# Altium footprint library Optoelectronic.PcbLib: 3 footprints
Each footprint in its own frame and in the unit in brackets; x right, y up, seen from the top. Pads: shape width x height; smd on the part's side, far side on the other; paste and mask are expansions set on the pad; w line width, h text height; cw(c..) or ccw(c..) is an arc to the next point about the centre after c.
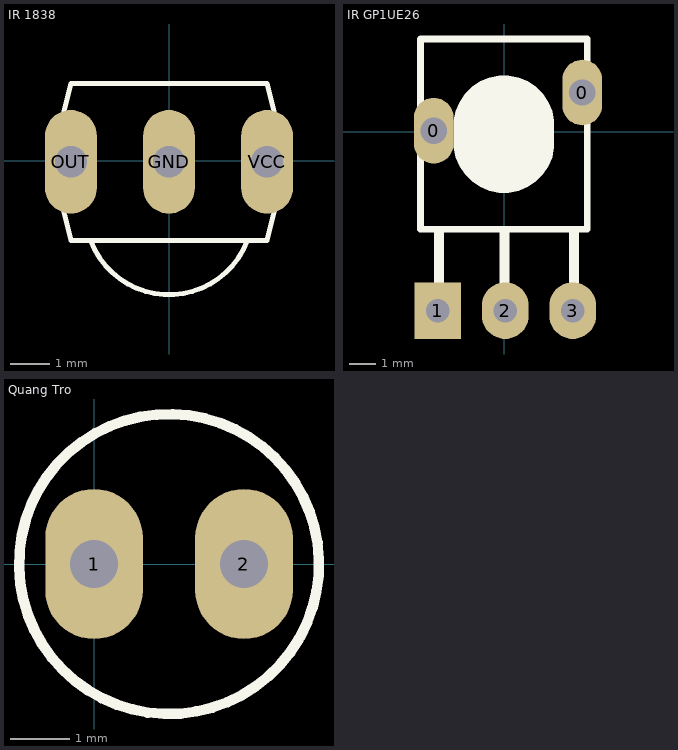
[diagram p0: the footprints below, top view; thin cyan lines are the x and y axes]

## IR 1838 [mil]
pads (3):
  oval 52x104 hole 32: GND(-0.05,-1.05) OUT(-98.47,-1.05) VCC(98.38,-1.05)
Top Overlay:
  lines w5: -78.56,-80.4 ccw(c-0.05,-50.26) 78.46,-80.4 ; -118.16,-1.05 -98.47,77.69 98.38,77.69 118.06,-1.05 98.38,-79.79 78.69,-79.79 -78.79,-79.79 -98.47,-79.79 -118.16,-1.05
3D body "TSOP1838--3DModel-STEP-510211.STEP": height 503.54, standoff -716.93, extent -118.11,-164.88 118.11,55

## IR GP1UE26 [mm]
pads (5):
  oval 1.5x2.5 hole 1 square: 0(-2.675,0.05) 0(2.975,1.5)
  rect 1.778x2.159 hole 0.889: 1(-2.525,-6.8)
  oval 1.778x2.159 hole 0.889: 2(0.047,-6.8) 3(2.612,-6.8)
Top Overlay:
  region: 1.9,0.234 1.9,-0.401 1.9,-0.589 1.827,-0.957 1.683,-1.303 1.475,-1.615 1.209,-1.881 0.897,-2.089 0.551,-2.233 0.183,-2.306 -0.005,-2.306 -0.193,-2.306 -0.561,-2.233 -0.907,-2.089 -1.219,-1.881 -1.485,-1.615 -1.693,-1.303 -1.837,-0.957 -1.91,-0.589 -1.91,-0.401 -1.91,0.234 -1.91,0.422 -1.837,0.79 -1.693,1.136 -1.485,1.448 -1.219,1.714 -0.907,1.922 -0.561,2.066 -0.193,2.139 -0.005,2.139 0.183,2.139 0.551,2.066 0.897,1.922 1.209,1.714 1.475,1.448 1.683,1.136 1.827,0.79 1.9,0.422
  lines w0.254: -3.18,-3.703 3.17,-3.703 3.17,3.536 -3.18,3.536 -3.18,-3.703
  lines w0.381: -2.469,-6.421 -2.469,-3.83 ; 0.02,-6.472 0.02,-3.83 ; 2.662,-6.497 2.662,-3.83
Mechanical 1:
  text "O G V" at -2.275,-5.375 h2
3D body "User Library-GP1UE26.STEP": height 7.1, standoff -3.6, extent -3.375,-6.925 3.425,2.875

## Quang Tro [mil] "QUANG TRO"
height 300
pads (2):
  oval 65x100 hole 32: 1(0,0) 2(100,0)
Top Overlay:
  lines w7: 136.62,-49.97 cw(c50,0) 137.42,-48.56